# Altium integrated library TI_Logic_Little_Logic.IntLib: 1164 symbols (part 9 of 35)
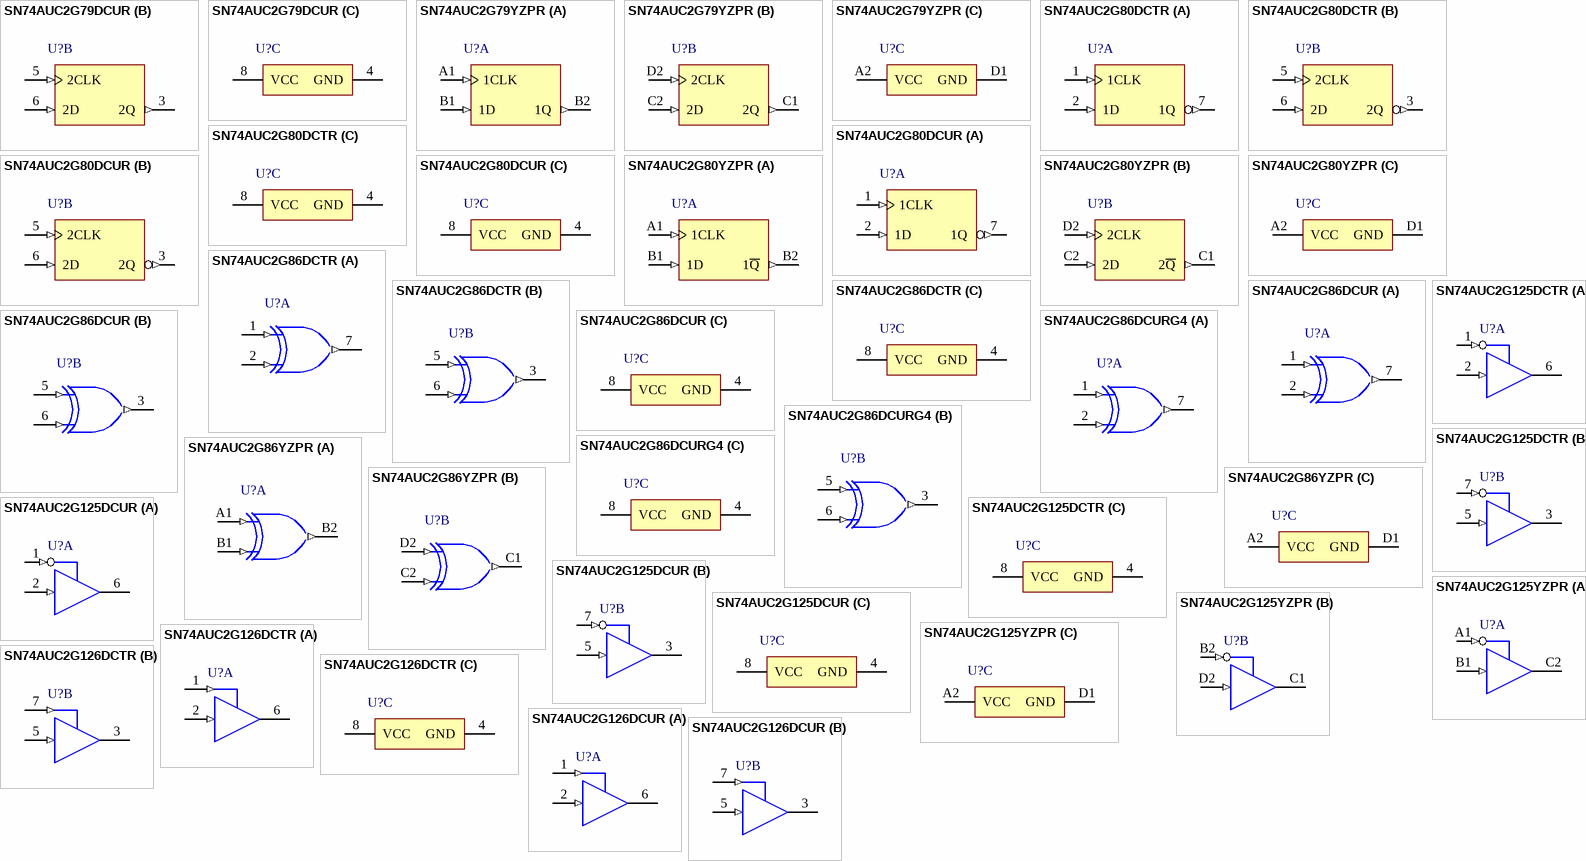
[diagram p68: symbols SN74AUC2G79DCUR to SN74AUC2G126DCUR]

## SN74AUC2G126DCTR
designator U?
Dual Bus Buffer Gate with 3-State Outputs, DCT0008A, LARGE T&R; Generic Part Number: SN74AUC2G126; Manufacturer: Texas Instruments; PartNumber: SN74AUC2G126DCTR; VCC(Min)(V): 0.8; VCC(Max)(V): 2.7; Output Type: CMOS; ICC @ Nom Voltage(Max)(mA): 0.01; Bits(#): 2; F @ Nom Voltage(Max)(Mhz): 250; Rating: Catalog; Technology Family: AUC; Voltage(Nom)(V): 0.8,1.2,1.5,1.8,2.5; Schmitt Trigger: No; Output Drive (IOL/IOH)(Max)(mA): 9/-9; tpd @ Nom Voltage(Max)(ns): 5.4,3.5,2.3,1.9,1.4; Logic: True; Sub-Family: Non-Inverting Buffer/Driver; 3-State Output: Yes; DatasheetVersion: SCES533C; PackageReference: DCT0008A; Supplier 1: Mouser; Supplier Part Number 1: 595-SN74AUC2G126DCTR; Supplier 2: Digi-Key; Supplier Part Number 2: 296-18885-2-ND; Supplier 3: Digi-Key; Supplier Part Number 3: 296-18885-1-ND; Supplier 4: Digi-Key; Supplier Part Number 4: 296-18885-6-ND; Input Type: CMOS; Operating Temperature Range(C): -40 to 85; ComponentLink1Description: Manufacturer URL; ComponentLink1URL: http://www.ti.com/; ComponentLink2Description: Datasheet; ComponentLink2URL: http://www.ti.com/lit/ds/symlink/sn74auc2g126.pdf
footprint DCT0008A_N (SOP, 8-Leads, Body 2.9x3.2mm, Pitch 0.65mm, IPC Medium Density)
footprint DCT0008A_M (SOP, 8-Leads, Body 2.9x3.2mm, Pitch 0.65mm, IPC Low Density)
footprint DCT0008A_L (SOP, 8-Leads, Body 2.9x3.2mm, Pitch 0.65mm, IPC High Density)
part A pins: 1 1OE (in), 2 1A (in), 6 1Y (hiz)
part B pins: 3 2Y (hiz), 5 2A (in), 7 2OE (in)
part C pins: 4 GND (power) "Ground Pin", 8 VCC (power) "Power Pin"

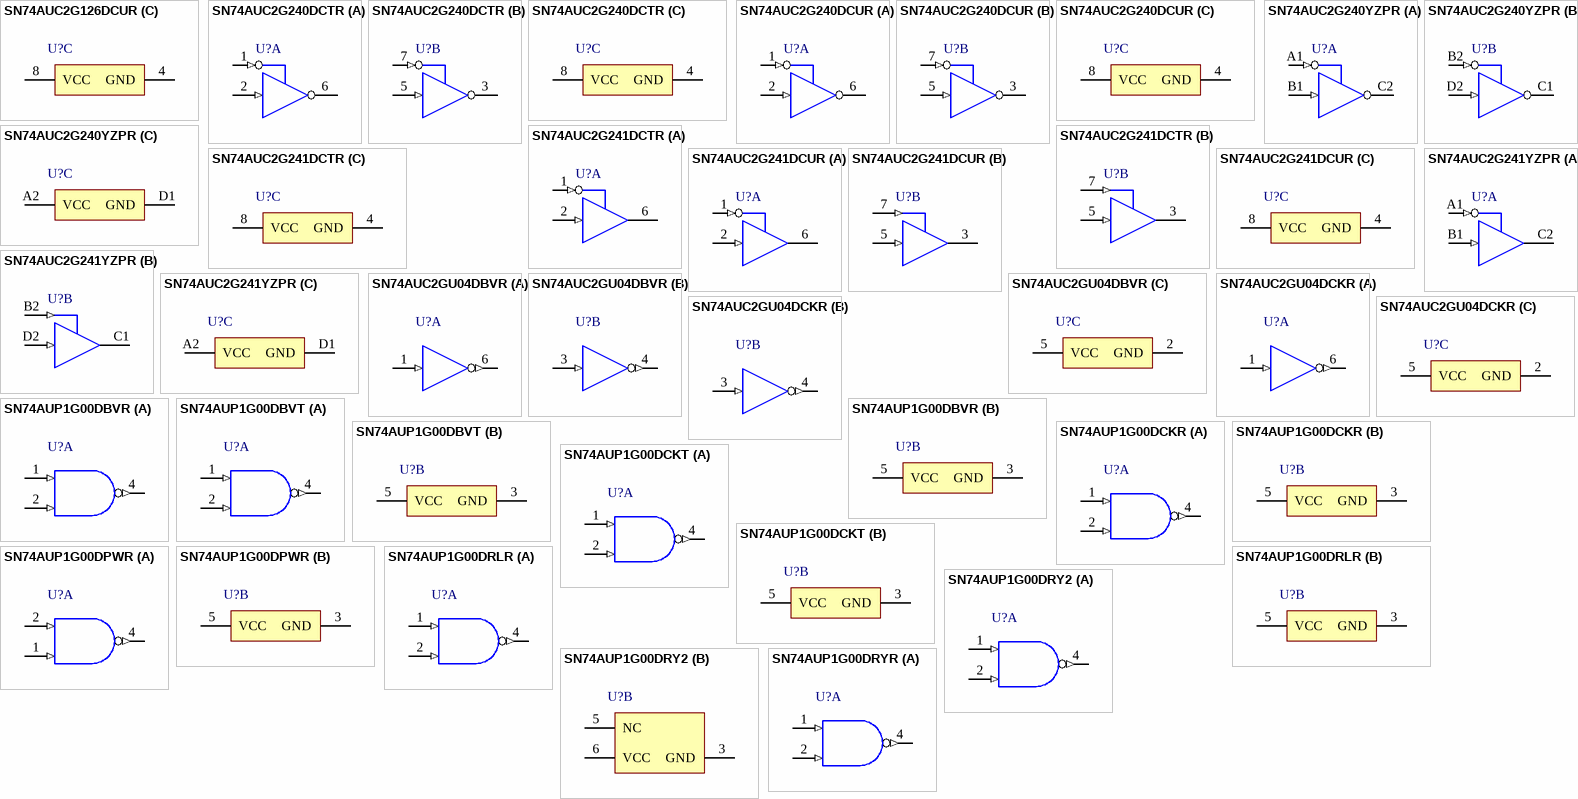
[diagram p14: symbols SN74AUC2G126DCUR to SN74AUP1G00DRYR]

## SN74AUC2G126DCUR
designator U?
Dual Bus Buffer Gate with 3-State Outputs, DCU0008A, LARGE T&R; Generic Part Number: SN74AUC2G126; Manufacturer: Texas Instruments; PartNumber: SN74AUC2G126DCUR; VCC(Min)(V): 0.8; VCC(Max)(V): 2.7; Output Type: CMOS; ICC @ Nom Voltage(Max)(mA): 0.01; Bits(#): 2; F @ Nom Voltage(Max)(Mhz): 250; Rating: Catalog; Technology Family: AUC; Voltage(Nom)(V): 0.8,1.2,1.5,1.8,2.5; Schmitt Trigger: No; Output Drive (IOL/IOH)(Max)(mA): 9/-9; tpd @ Nom Voltage(Max)(ns): 5.4,3.5,2.3,1.9,1.4; Logic: True; Sub-Family: Non-Inverting Buffer/Driver; 3-State Output: Yes; DatasheetVersion: SCES533C; PackageReference: DCU0008A; Supplier 1: Mouser; Supplier Part Number 1: 595-SN74AUC2G126DCUR; Supplier 2: Digi-Key; Supplier Part Number 2: 296-18970-2-ND; Supplier 3: Digi-Key; Supplier Part Number 3: 296-18970-1-ND; Supplier 4: Digi-Key; Supplier Part Number 4: 296-18970-6-ND; Input Type: CMOS; Operating Temperature Range(C): -40 to 85; ComponentLink1Description: Manufacturer URL; ComponentLink1URL: http://www.ti.com/; ComponentLink2Description: Datasheet; ComponentLink2URL: http://www.ti.com/lit/ds/symlink/sn74auc2g126.pdf
footprint DCU0008A_N (SOP, 8-Leads, Body 2.4x2.1mm, Pitch 0.5mm, IPC Medium Density)
footprint DCU0008A_M (SOP, 8-Leads, Body 2.4x2.1mm, Pitch 0.5mm, IPC Low Density)
footprint DCU0008A_L (SOP, 8-Leads, Body 2.4x2.1mm, Pitch 0.5mm, IPC High Density)
part A pins: 1 1OE (in), 2 1A (in), 6 1Y (hiz)
part B pins: 3 2Y (hiz), 5 2A (in), 7 2OE (in)
part C pins: 4 GND (power) "Ground Pin", 8 VCC (power) "Power Pin"

## SN74AUC2G240DCTR
designator U?
Dual Buffer/Driver with 3-State Outputs, DCT0008A, LARGE T&R; Generic Part Number: SN74AUC2G240; Manufacturer: Texas Instruments; PartNumber: SN74AUC2G240DCTR; VCC(Min)(V): 0.8; VCC(Max)(V): 2.7; Output Type: CMOS; ICC @ Nom Voltage(Max)(mA): 0.01; Bits(#): 2; F @ Nom Voltage(Max)(Mhz): 250; Rating: Catalog; Technology Family: AUC; Voltage(Nom)(V): 0.8,1.2,1.5,1.8,2.5; Schmitt Trigger: No; Output Drive (IOL/IOH)(Max)(mA): 9/-9; tpd @ Nom Voltage(Max)(ns): 4.5,3.3,2.2,1.8,1.3; Logic: Inverting; Sub-Family: Non-Inverting Buffer/Driver; 3-State Output: Yes; DatasheetVersion: SCES534C; PackageReference: DCT0008A; Supplier 1: Mouser; Supplier Part Number 1: 595-SN74AUC2G240DCTR; Supplier 2: Digi-Key; Supplier Part Number 2: 296-19038-2-ND; Supplier 3: Digi-Key; Supplier Part Number 3: 296-19038-1-ND; Supplier 4: Digi-Key; Supplier Part Number 4: 296-19038-6-ND; Input Type: CMOS; Operating Temperature Range(C): -40 to 85; ComponentLink1Description: Manufacturer URL; ComponentLink1URL: http://www.ti.com/; ComponentLink2Description: Datasheet; ComponentLink2URL: http://www.ti.com/lit/ds/symlink/sn74auc2g240.pdf
footprint DCT0008A_N (SOP, 8-Leads, Body 2.9x3.2mm, Pitch 0.65mm, IPC Medium Density)
footprint DCT0008A_M (SOP, 8-Leads, Body 2.9x3.2mm, Pitch 0.65mm, IPC Low Density)
footprint DCT0008A_L (SOP, 8-Leads, Body 2.9x3.2mm, Pitch 0.65mm, IPC High Density)
part A pins: 1 1~{OE} (in), 2 1A (in), 6 1Y (hiz)
part B pins: 3 2Y (hiz), 5 2A (in), 7 2~{OE} (in)
part C pins: 4 GND (power), 8 VCC (power)

## SN74AUC2G240DCUR
designator U?
Dual Buffer/Driver with 3-State Outputs, DCU0008A, LARGE T&R; Generic Part Number: SN74AUC2G240; Manufacturer: Texas Instruments; PartNumber: SN74AUC2G240DCUR; VCC(Min)(V): 0.8; VCC(Max)(V): 2.7; Output Type: CMOS; ICC @ Nom Voltage(Max)(mA): 0.01; Bits(#): 2; F @ Nom Voltage(Max)(Mhz): 250; Rating: Catalog; Technology Family: AUC; Voltage(Nom)(V): 0.8,1.2,1.5,1.8,2.5; Schmitt Trigger: No; Output Drive (IOL/IOH)(Max)(mA): 9/-9; tpd @ Nom Voltage(Max)(ns): 4.5,3.3,2.2,1.8,1.3; Logic: Inverting; Sub-Family: Non-Inverting Buffer/Driver; 3-State Output: Yes; DatasheetVersion: SCES534C; PackageReference: DCU0008A; Supplier 1: Mouser; Supplier Part Number 1: 595-SN74AUC2G240DCUR; Supplier 2: Digi-Key; Supplier Part Number 2: 296-18882-2-ND; Supplier 3: Digi-Key; Supplier Part Number 3: 296-18882-1-ND; Supplier 4: Digi-Key; Supplier Part Number 4: 296-18882-6-ND; Input Type: CMOS; Operating Temperature Range(C): -40 to 85; ComponentLink1Description: Manufacturer URL; ComponentLink1URL: http://www.ti.com/; ComponentLink2Description: Datasheet; ComponentLink2URL: http://www.ti.com/lit/ds/symlink/sn74auc2g240.pdf
footprint DCU0008A_N (SOP, 8-Leads, Body 2.4x2.1mm, Pitch 0.5mm, IPC Medium Density)
footprint DCU0008A_M (SOP, 8-Leads, Body 2.4x2.1mm, Pitch 0.5mm, IPC Low Density)
footprint DCU0008A_L (SOP, 8-Leads, Body 2.4x2.1mm, Pitch 0.5mm, IPC High Density)
part A pins: 1 1~{OE} (in), 2 1A (in), 6 1Y (hiz)
part B pins: 3 2Y (hiz), 5 2A (in), 7 2~{OE} (in)
part C pins: 4 GND (power), 8 VCC (power)

## SN74AUC2G240YZPR
designator U?
Dual Buffer/Driver with 3-State Outputs, YZP0008ADAD, LARGE T&R; Generic Part Number: SN74AUC2G240; Manufacturer: Texas Instruments; PartNumber: SN74AUC2G240YZPR; VCC(Min)(V): 0.8; VCC(Max)(V): 2.7; Output Type: CMOS; ICC @ Nom Voltage(Max)(mA): 0.01; Bits(#): 2; F @ Nom Voltage(Max)(Mhz): 250; Rating: Catalog; Technology Family: AUC; Voltage(Nom)(V): 0.8,1.2,1.5,1.8,2.5; Schmitt Trigger: No; Output Drive (IOL/IOH)(Max)(mA): 9/-9; tpd @ Nom Voltage(Max)(ns): 4.5,3.3,2.2,1.8,1.3; Logic: Inverting; Sub-Family: Non-Inverting Buffer/Driver; 3-State Output: Yes; DatasheetVersion: SCES534C; PackageReference: YZP0008ADAD; Supplier 1: Mouser; Supplier Part Number 1: 595-SN74AUC2G240YZPR; Supplier 2: Digi-Key; Supplier Part Number 2: 296-16802-2-ND; Supplier 3: Digi-Key; Supplier Part Number 3: 296-16802-1-ND; Supplier 4: Digi-Key; Supplier Part Number 4: 296-16802-6-ND; Input Type: CMOS; Operating Temperature Range(C): -40 to 85; ComponentLink1Description: Manufacturer URL; ComponentLink1URL: http://www.ti.com/; ComponentLink2Description: Datasheet; ComponentLink2URL: http://www.ti.com/lit/ds/symlink/sn74auc2g240.pdf
footprint YZP0008ADAD (BGA, 8-Balls, Body 1.89x0.89mm, Pitch 0.5mm)
part A pins: A1 1~{OE} (in), B1 1A (in), C2 1Y (hiz)
part B pins: B2 2~{OE} (in), C1 2Y (hiz), D2 2A (in)
part C pins: A2 VCC (power), D1 GND (power)

## SN74AUC2G241DCTR
designator U?
Dual Buffer/Driver with 3-State Outputs, DCT0008A, LARGE T&R; Generic Part Number: SN74AUC2G241; Manufacturer: Texas Instruments; PartNumber: SN74AUC2G241DCTR; VCC(Min)(V): 0.8; VCC(Max)(V): 2.7; Output Type: CMOS; ICC @ Nom Voltage(Max)(mA): 0.01; Bits(#): 2; F @ Nom Voltage(Max)(Mhz): 250; Rating: Catalog; Technology Family: AUC; Voltage(Nom)(V): 0.8,1.2,1.5,1.8,2.5; Schmitt Trigger: No; Output Drive (IOL/IOH)(Max)(mA): 9/-9; tpd @ Nom Voltage(Max)(ns): 5.1,3.5,2.3,1.9,1.4; Logic: True; Sub-Family: Non-Inverting Buffer/Driver; 3-State Output: Yes; DatasheetVersion: SCES535C; PackageReference: DCT0008A; Supplier 1: Mouser; Supplier Part Number 1: 595-SN74AUC2G241DCTR; Supplier 2: Digi-Key; Supplier Part Number 2: 296-18883-2-ND; Supplier 3: Digi-Key; Supplier Part Number 3: 296-18883-1-ND; Supplier 4: Digi-Key; Supplier Part Number 4: 296-18883-6-ND; Input Type: CMOS; Operating Temperature Range(C): -40 to 85; ComponentLink1Description: Manufacturer URL; ComponentLink1URL: http://www.ti.com/; ComponentLink2Description: Datasheet; ComponentLink2URL: http://www.ti.com/lit/ds/symlink/sn74auc2g241.pdf
footprint DCT0008A_N (SOP, 8-Leads, Body 2.9x3.2mm, Pitch 0.65mm, IPC Medium Density)
footprint DCT0008A_M (SOP, 8-Leads, Body 2.9x3.2mm, Pitch 0.65mm, IPC Low Density)
footprint DCT0008A_L (SOP, 8-Leads, Body 2.9x3.2mm, Pitch 0.65mm, IPC High Density)
part A pins: 1 1~{OE} (in), 2 1A (in), 6 1Y (hiz)
part B pins: 3 2Y (hiz), 5 2A (in), 7 2OE (in)
part C pins: 4 GND (power), 8 VCC (power)

## SN74AUC2G241DCUR
designator U?
Dual Buffer/Driver with 3-State Outputs, DCU0008A, LARGE T&R; Generic Part Number: SN74AUC2G241; Manufacturer: Texas Instruments; PartNumber: SN74AUC2G241DCUR; VCC(Min)(V): 0.8; VCC(Max)(V): 2.7; Output Type: CMOS; ICC @ Nom Voltage(Max)(mA): 0.01; Bits(#): 2; F @ Nom Voltage(Max)(Mhz): 250; Rating: Catalog; Technology Family: AUC; Voltage(Nom)(V): 0.8,1.2,1.5,1.8,2.5; Schmitt Trigger: No; Output Drive (IOL/IOH)(Max)(mA): 9/-9; tpd @ Nom Voltage(Max)(ns): 5.1,3.5,2.3,1.9,1.4; Logic: True; Sub-Family: Non-Inverting Buffer/Driver; 3-State Output: Yes; DatasheetVersion: SCES535C; PackageReference: DCU0008A; Supplier 1: Mouser; Supplier Part Number 1: 595-SN74AUC2G241DCUR; Supplier 2: Digi-Key; Supplier Part Number 2: 296-18884-2-ND; Supplier 3: Digi-Key; Supplier Part Number 3: 296-18884-1-ND; Supplier 4: Digi-Key; Supplier Part Number 4: 296-18884-6-ND; Input Type: CMOS; Operating Temperature Range(C): -40 to 85; ComponentLink1Description: Manufacturer URL; ComponentLink1URL: http://www.ti.com/; ComponentLink2Description: Datasheet; ComponentLink2URL: http://www.ti.com/lit/ds/symlink/sn74auc2g241.pdf
footprint DCU0008A_N (SOP, 8-Leads, Body 2.4x2.1mm, Pitch 0.5mm, IPC Medium Density)
footprint DCU0008A_M (SOP, 8-Leads, Body 2.4x2.1mm, Pitch 0.5mm, IPC Low Density)
footprint DCU0008A_L (SOP, 8-Leads, Body 2.4x2.1mm, Pitch 0.5mm, IPC High Density)
part A pins: 1 1~{OE} (in), 2 1A (in), 6 1Y (hiz)
part B pins: 3 2Y (hiz), 5 2A (in), 7 2OE (in)
part C pins: 4 GND (power), 8 VCC (power)

## SN74AUC2G241YZPR
designator U?
Dual Buffer/Driver with 3-State Outputs, YZP0008ADAD, LARGE T&R; Generic Part Number: SN74AUC2G241; Manufacturer: Texas Instruments; PartNumber: SN74AUC2G241YZPR; VCC(Min)(V): 0.8; VCC(Max)(V): 2.7; Output Type: CMOS; ICC @ Nom Voltage(Max)(mA): 0.01; Bits(#): 2; F @ Nom Voltage(Max)(Mhz): 250; Rating: Catalog; Technology Family: AUC; Voltage(Nom)(V): 0.8,1.2,1.5,1.8,2.5; Schmitt Trigger: No; Output Drive (IOL/IOH)(Max)(mA): 9/-9; tpd @ Nom Voltage(Max)(ns): 5.1,3.5,2.3,1.9,1.4; Logic: True; Sub-Family: Non-Inverting Buffer/Driver; 3-State Output: Yes; DatasheetVersion: SCES535C; PackageReference: YZP0008ADAD; Supplier 1: Mouser; Supplier Part Number 1: 595-SN74AUC2G241YZPR; Supplier 2: Digi-Key; Supplier Part Number 2: SN74AUC2G241YZPR-ND; Input Type: CMOS; Operating Temperature Range(C): -40 to 85; ComponentLink1Description: Manufacturer URL; ComponentLink1URL: http://www.ti.com/; ComponentLink2Description: Datasheet; ComponentLink2URL: http://www.ti.com/lit/ds/symlink/sn74auc2g241.pdf
footprint YZP0008ADAD (BGA, 8-Balls, Body 1.89x0.89mm, Pitch 0.5mm)
part A pins: A1 1~{OE} (in), B1 1A (in), C2 1Y (hiz)
part B pins: B2 2OE (in), C1 2Y (hiz), D2 2A (in)
part C pins: A2 VCC (power), D1 GND (power)

## SN74AUC2GU04DBVR
designator U?
Dual Inverter Gate, DBV0006A, LARGE T&R; Generic Part Number: SN74AUC2GU04; Manufacturer: Texas Instruments; PartNumber: SN74AUC2GU04DBVR; VCC(Min)(V): 0.8; VCC(Max)(V): 2.7; Output Type: CMOS; ICC @ Nom Voltage(Max)(mA): 0.01; Bits(#): 2; F @ Nom Voltage(Max)(Mhz): 250; Rating: Catalog; Technology Family: AUC; Voltage(Nom)(V): 0.8,1.2,1.5,1.8,2.5; Schmitt Trigger: No; Output Drive (IOL/IOH)(Max)(mA): 9/-9; tpd @ Nom Voltage(Max)(ns): 6.2,3.1,2.2,1.9,1.4; Logic: Inverting; Sub-Family: Inverting Buffer/Driver; DatasheetVersion: SCES438C; PackageReference: DBV0006A; Supplier 1: Mouser; Supplier Part Number 1: 595-SN74AUC2GU04DBVR; Supplier 2: Digi-Key; Supplier Part Number 2: 296-19063-2-ND; Supplier 3: Digi-Key; Supplier Part Number 3: 296-19063-1-ND; Supplier 4: Digi-Key; Supplier Part Number 4: 296-19063-6-ND; Input Type: CMOS; Operating Temperature Range(C): -40 to 85; 3-State Output: No; ComponentLink1Description: Manufacturer URL; ComponentLink1URL: http://www.ti.com/; ComponentLink2Description: Datasheet; ComponentLink2URL: http://www.ti.com/lit/ds/symlink/sn74auc2gu04.pdf
footprint DBV0006A_N (SOT23, 6-Leads, Body 3.05x1.75mm, Pitch 0.95mm, IPC Medium Density)
footprint DBV0006A_M (SOT23, 6-Leads, Body 3.05x1.75mm, Pitch 0.95mm, IPC Low Density)
footprint DBV0006A_L (SOT23, 6-Leads, Body 3.05x1.75mm, Pitch 0.95mm, IPC High Density)
part A pins: 1 1A (in), 6 1Y (out)
part B pins: 3 2A (in), 4 2Y (out)
part C pins: 2 GND (power), 5 VCC (power)

## SN74AUC2GU04DCKR
designator U?
Dual Inverter Gate, DCK0006A, LARGE T&R; Generic Part Number: SN74AUC2GU04; Manufacturer: Texas Instruments; PartNumber: SN74AUC2GU04DCKR; VCC(Min)(V): 0.8; VCC(Max)(V): 2.7; Output Type: CMOS; ICC @ Nom Voltage(Max)(mA): 0.01; Bits(#): 2; F @ Nom Voltage(Max)(Mhz): 250; Rating: Catalog; Technology Family: AUC; Voltage(Nom)(V): 0.8,1.2,1.5,1.8,2.5; Schmitt Trigger: No; Output Drive (IOL/IOH)(Max)(mA): 9/-9; tpd @ Nom Voltage(Max)(ns): 6.2,3.1,2.2,1.9,1.4; Logic: Inverting; Sub-Family: Inverting Buffer/Driver; DatasheetVersion: SCES438C; PackageReference: DCK0006A; Supplier 1: Mouser; Supplier Part Number 1: 595-SN74AUC2GU04DCKR; Supplier 2: Digi-Key; Supplier Part Number 2: SN74AUC2GU04DCKR-ND; Input Type: CMOS; Operating Temperature Range(C): -40 to 85; 3-State Output: No; ComponentLink1Description: Manufacturer URL; ComponentLink1URL: http://www.ti.com/; ComponentLink2Description: Datasheet; ComponentLink2URL: http://www.ti.com/lit/ds/symlink/sn74auc2gu04.pdf
footprint DCK0006A_N (SOT23, 6-Leads, Body 2.15x1.4mm, Pitch 0.65mm, IPC Medium Density)
footprint DCK0006A_M (SOT23, 6-Leads, Body 2.15x1.4mm, Pitch 0.65mm, IPC Low Density)
footprint DCK0006A_L (SOT23, 6-Leads, Body 2.15x1.4mm, Pitch 0.65mm, IPC High Density)
part A pins: 1 1A (in), 6 1Y (out)
part B pins: 3 2A (in), 4 2Y (out)
part C pins: 2 GND (power), 5 VCC (power)

## SN74AUP1G00DBVR
designator U?
Low-Power Single Two-Input Positive-NAND Gate, DBV0005A, LARGE T&R; Generic Part Number: SN74AUP1G00; Manufacturer: Texas Instruments; PartNumber: SN74AUP1G00DBVR; VCC(Min)(V): 0.8; VCC(Max)(V): 3.6; Output Type: CMOS; ICC @ Nom Voltage(Max)(mA): 0.0009; Bits(#): 1; F @ Nom Voltage(Max)(Mhz): 100; Rating: Catalog; Technology Family: AUP; Voltage(Nom)(V): 0.8,1.2,1.5,1.8,2.5,3.3; Schmitt Trigger: No; Output Drive (IOL/IOH)(Max)(mA): 20/-20; tpd @ Nom Voltage(Max)(ns): 28.4,21.9,14.7,11.5,8.1,6.5; Logic: True; Gate Type: NAND; DatasheetVersion: SCES604I; PackageReference: DBV0005A; Supplier 1: Mouser; Supplier Part Number 1: 595-SN74AUP1G00DBVR; Supplier 2: Digi-Key; Supplier Part Number 2: 296-18581-2-ND; Supplier 3: Digi-Key; Supplier Part Number 3: 296-18581-1-ND; Supplier 4: Digi-Key; Supplier Part Number 4: 296-18581-6-ND; Input Type: CMOS; Operating Temperature Range(C): -40 to 85; Sub-Family: NAND Gate; 3-State Output: No; ComponentLink1Description: Manufacturer URL; ComponentLink1URL: http://www.ti.com/; ComponentLink2Description: Datasheet; ComponentLink2URL: http://www.ti.com/lit/ds/symlink/sn74aup1g00.pdf
footprint DBV0005A_N (SOT23, 5-Leads, Body 3.05x1.75mm, Pitch 0.95mm, IPC Medium Density)
footprint DBV0005A_M (SOT23, 5-Leads, Body 3.05x1.75mm, Pitch 0.95mm, IPC Low Density)
footprint DBV0005A_L (SOT23, 5-Leads, Body 3.05x1.75mm, Pitch 0.95mm, IPC High Density)
part A pins: 1 A (in) "Input A", 2 B (in) "Input B", 4 Y (out) "Output Y"
part B pins: 3 GND (power) "Ground Pin", 5 VCC (power) "Power Pin"

## SN74AUP1G00DBVT
designator U?
Low-Power Single Two-Input Positive-NAND Gate, DBV0005A, SMALL T&R; Generic Part Number: SN74AUP1G00; Manufacturer: Texas Instruments; PartNumber: SN74AUP1G00DBVT; VCC(Min)(V): 0.8; VCC(Max)(V): 3.6; Output Type: CMOS; ICC @ Nom Voltage(Max)(mA): 0.0009; Bits(#): 1; F @ Nom Voltage(Max)(Mhz): 100; Rating: Catalog; Technology Family: AUP; Voltage(Nom)(V): 0.8,1.2,1.5,1.8,2.5,3.3; Schmitt Trigger: No; Output Drive (IOL/IOH)(Max)(mA): 20/-20; tpd @ Nom Voltage(Max)(ns): 28.4,21.9,14.7,11.5,8.1,6.5; Logic: True; Gate Type: NAND; DatasheetVersion: SCES604I; PackageReference: DBV0005A; Supplier 1: Mouser; Supplier Part Number 1: 595-SN74AUP1G00DBVT; Supplier 2: Digi-Key; Supplier Part Number 2: 296-41489-2-ND; Supplier 3: Digi-Key; Supplier Part Number 3: 296-41489-1-ND; Supplier 4: Digi-Key; Supplier Part Number 4: 296-41489-6-ND; Input Type: CMOS; Operating Temperature Range(C): -40 to 85; Sub-Family: NAND Gate; 3-State Output: No; ComponentLink1Description: Manufacturer URL; ComponentLink1URL: http://www.ti.com/; ComponentLink2Description: Datasheet; ComponentLink2URL: http://www.ti.com/lit/ds/symlink/sn74aup1g00.pdf
footprint DBV0005A_N (SOT23, 5-Leads, Body 3.05x1.75mm, Pitch 0.95mm, IPC Medium Density)
footprint DBV0005A_M (SOT23, 5-Leads, Body 3.05x1.75mm, Pitch 0.95mm, IPC Low Density)
footprint DBV0005A_L (SOT23, 5-Leads, Body 3.05x1.75mm, Pitch 0.95mm, IPC High Density)
part A pins: 1 A (in) "Input A", 2 B (in) "Input B", 4 Y (out) "Output Y"
part B pins: 3 GND (power) "Ground Pin", 5 VCC (power) "Power Pin"

## SN74AUP1G00DCKR
designator U?
Low-Power Single Two-Input Positive-NAND Gate, DCK0005A, LARGE T&R; Generic Part Number: SN74AUP1G00; Manufacturer: Texas Instruments; PartNumber: SN74AUP1G00DCKR; VCC(Min)(V): 0.8; VCC(Max)(V): 3.6; Output Type: CMOS; ICC @ Nom Voltage(Max)(mA): 0.0009; Bits(#): 1; F @ Nom Voltage(Max)(Mhz): 100; Rating: Catalog; Technology Family: AUP; Voltage(Nom)(V): 0.8,1.2,1.5,1.8,2.5,3.3; Schmitt Trigger: No; Output Drive (IOL/IOH)(Max)(mA): 20/-20; tpd @ Nom Voltage(Max)(ns): 28.4,21.9,14.7,11.5,8.1,6.5; Logic: True; Gate Type: NAND; DatasheetVersion: SCES604I; PackageReference: DCK0005A; Supplier 1: Mouser; Supplier Part Number 1: 595-SN74AUP1G00DCKR; Supplier 2: Digi-Key; Supplier Part Number 2: 296-18200-2-ND; Supplier 3: Digi-Key; Supplier Part Number 3: 296-18200-1-ND; Supplier 4: Digi-Key; Supplier Part Number 4: 296-18200-6-ND; Input Type: CMOS; Operating Temperature Range(C): -40 to 85; Sub-Family: NAND Gate; 3-State Output: No; ComponentLink1Description: Manufacturer URL; ComponentLink1URL: http://www.ti.com/; ComponentLink2Description: Datasheet; ComponentLink2URL: http://www.ti.com/lit/ds/symlink/sn74aup1g00.pdf
footprint DCK0005A_N (SOT23, 5-Leads, Body 2.15x1.4mm, Pitch 0.65mm, IPC Medium Density)
footprint DCK0005A_M (SOT23, 5-Leads, Body 2.15x1.4mm, Pitch 0.65mm, IPC Low Density)
footprint DCK0005A_L (SOT23, 5-Leads, Body 2.15x1.4mm, Pitch 0.65mm, IPC High Density)
part A pins: 1 A (in) "Input A", 2 B (in) "Input B", 4 Y (out) "Output Y"
part B pins: 3 GND (power) "Ground Pin", 5 VCC (power) "Power Pin"

## SN74AUP1G00DCKT
designator U?
Low-Power Single Two-Input Positive-NAND Gate, DCK0005A, SMALL T&R; Generic Part Number: SN74AUP1G00; Manufacturer: Texas Instruments; PartNumber: SN74AUP1G00DCKT; VCC(Min)(V): 0.8; VCC(Max)(V): 3.6; Output Type: CMOS; ICC @ Nom Voltage(Max)(mA): 0.0009; Bits(#): 1; F @ Nom Voltage(Max)(Mhz): 100; Rating: Catalog; Technology Family: AUP; Voltage(Nom)(V): 0.8,1.2,1.5,1.8,2.5,3.3; Schmitt Trigger: No; Output Drive (IOL/IOH)(Max)(mA): 20/-20; tpd @ Nom Voltage(Max)(ns): 28.4,21.9,14.7,11.5,8.1,6.5; Logic: True; Gate Type: NAND; DatasheetVersion: SCES604I; PackageReference: DCK0005A; Supplier 1: Mouser; Supplier Part Number 1: 595-SN74AUP1G00DCKT; Supplier 2: Digi-Key; Supplier Part Number 2: SN74AUP1G00DCKT-ND; Input Type: CMOS; Operating Temperature Range(C): -40 to 85; Sub-Family: NAND Gate; 3-State Output: No; ComponentLink1Description: Manufacturer URL; ComponentLink1URL: http://www.ti.com/; ComponentLink2Description: Datasheet; ComponentLink2URL: http://www.ti.com/lit/ds/symlink/sn74aup1g00.pdf
footprint DCK0005A_N (SOT23, 5-Leads, Body 2.15x1.4mm, Pitch 0.65mm, IPC Medium Density)
footprint DCK0005A_M (SOT23, 5-Leads, Body 2.15x1.4mm, Pitch 0.65mm, IPC Low Density)
footprint DCK0005A_L (SOT23, 5-Leads, Body 2.15x1.4mm, Pitch 0.65mm, IPC High Density)
part A pins: 1 A (in) "Input A", 2 B (in) "Input B", 4 Y (out) "Output Y"
part B pins: 3 GND (power) "Ground Pin", 5 VCC (power) "Power Pin"

## SN74AUP1G00DPWR
designator U?
Low-Power Single Two-Input Positive-NAND Gate, DPW0004A, LARGE T&R; Generic Part Number: SN74AUP1G00; Manufacturer: Texas Instruments; PartNumber: SN74AUP1G00DPWR; VCC(Min)(V): 0.8; VCC(Max)(V): 3.6; Output Type: CMOS; ICC @ Nom Voltage(Max)(mA): 0.0009; Bits(#): 1; F @ Nom Voltage(Max)(Mhz): 100; Rating: Catalog; Technology Family: AUP; Voltage(Nom)(V): 0.8,1.2,1.5,1.8,2.5,3.3; Schmitt Trigger: No; Output Drive (IOL/IOH)(Max)(mA): 20/-20; tpd @ Nom Voltage(Max)(ns): 28.4,21.9,14.7,11.5,8.1,6.5; Logic: True; Gate Type: NAND; DatasheetVersion: SCES604I; PackageReference: DPW0004A; Supplier 1: Mouser; Supplier Part Number 1: 595-SN74AUP1G00DPWR; Supplier 2: Digi-Key; Supplier Part Number 2: 296-38017-2-ND; Supplier 3: Digi-Key; Supplier Part Number 3: 296-38017-1-ND; Supplier 4: Digi-Key; Supplier Part Number 4: 296-38017-6-ND; Input Type: CMOS; Operating Temperature Range(C): -40 to 85; Sub-Family: NAND Gate; 3-State Output: No; ComponentLink1Description: Manufacturer URL; ComponentLink1URL: http://www.ti.com/; ComponentLink2Description: Datasheet; ComponentLink2URL: http://www.ti.com/lit/ds/symlink/sn74aup1g00.pdf
footprint DPW0004A_V (SON, 5-Leads, Body 0.8x0.8mm, TI Recommend)
part A pins: 1 B (in) "Input B", 2 A (in) "Input A", 4 Y (out) "Output Y"
part B pins: 3 GND (power) "Ground", 5 VCC (power) "Power Pin"

## SN74AUP1G00DRLR
designator U?
Low-Power Single Two-Input Positive-NAND Gate, DRL0005A, LARGE T&R; Generic Part Number: SN74AUP1G00; Manufacturer: Texas Instruments; PartNumber: SN74AUP1G00DRLR; VCC(Min)(V): 0.8; VCC(Max)(V): 3.6; Output Type: CMOS; ICC @ Nom Voltage(Max)(mA): 0.0009; Bits(#): 1; F @ Nom Voltage(Max)(Mhz): 100; Rating: Catalog; Technology Family: AUP; Voltage(Nom)(V): 0.8,1.2,1.5,1.8,2.5,3.3; Schmitt Trigger: No; Output Drive (IOL/IOH)(Max)(mA): 20/-20; tpd @ Nom Voltage(Max)(ns): 28.4,21.9,14.7,11.5,8.1,6.5; Logic: True; Gate Type: NAND; DatasheetVersion: SCES604I; PackageReference: DRL0005A; Supplier 1: Mouser; Supplier Part Number 1: 595-SN74AUP1G00DRLR; Supplier 2: Digi-Key; Supplier Part Number 2: 296-18712-2-ND; Supplier 3: Digi-Key; Supplier Part Number 3: 296-18712-1-ND; Supplier 4: Digi-Key; Supplier Part Number 4: 296-18712-6-ND; Input Type: CMOS; Operating Temperature Range(C): -40 to 85; Sub-Family: NAND Gate; 3-State Output: No; ComponentLink1Description: Manufacturer URL; ComponentLink1URL: http://www.ti.com/; ComponentLink2Description: Datasheet; ComponentLink2URL: http://www.ti.com/lit/ds/symlink/sn74aup1g00.pdf
footprint DRL0005A_N (SOT23, 5-Leads, Body 1.7x1.3mm, Pitch 0.5mm, IPC Medium Density)
footprint DRL0005A_M (SOT23, 5-Leads, Body 1.7x1.3mm, Pitch 0.5mm, IPC Low Density)
footprint DRL0005A_L (SOT23, 5-Leads, Body 1.7x1.3mm, Pitch 0.5mm, IPC High Density)
part A pins: 1 A (in) "Input A", 2 B (in) "Input B", 4 Y (out) "Output Y"
part B pins: 3 GND (power) "Ground Pin", 5 VCC (power) "Power Pin"

## SN74AUP1G00DRY2
designator U?
Low-Power Single Two-Input Positive-NAND Gate, DRY0006A, LARGE T&R; Generic Part Number: SN74AUP1G00; Manufacturer: Texas Instruments; PartNumber: SN74AUP1G00DRY2; VCC(Min)(V): 0.8; VCC(Max)(V): 3.6; Output Type: CMOS; ICC @ Nom Voltage(Max)(mA): 0.0009; Bits(#): 1; F @ Nom Voltage(Max)(Mhz): 100; Rating: Catalog; Technology Family: AUP; Voltage(Nom)(V): 0.8,1.2,1.5,1.8,2.5,3.3; Schmitt Trigger: No; Output Drive (IOL/IOH)(Max)(mA): 20/-20; tpd @ Nom Voltage(Max)(ns): 28.4,21.9,14.7,11.5,8.1,6.5; Logic: True; Gate Type: NAND; DatasheetVersion: SCES604I; PackageReference: DRY0006A; Supplier 1: Mouser; Supplier Part Number 1: 595-SN74AUP1G00DRY2; Supplier 2: Digi-Key; Supplier Part Number 2: SN74AUP1G00DRY2-ND; Input Type: CMOS; Operating Temperature Range(C): -40 to 85; Sub-Family: NAND Gate; 3-State Output: No; ComponentLink1Description: Manufacturer URL; ComponentLink1URL: http://www.ti.com/; ComponentLink2Description: Datasheet; ComponentLink2URL: http://www.ti.com/lit/ds/symlink/sn74aup1g00.pdf
footprint DRY0006A_V (SON, 6-Leads, Body 1.45x1mm, Pitch 0.5mm)
part A pins: 1 A (in) "Input", 2 B (in) "Input", 4 Y (out) "Output"
part B pins: 3 GND (power) "Ground", 5 NC "No internal connection", 6 VCC (power) "Power Pin"

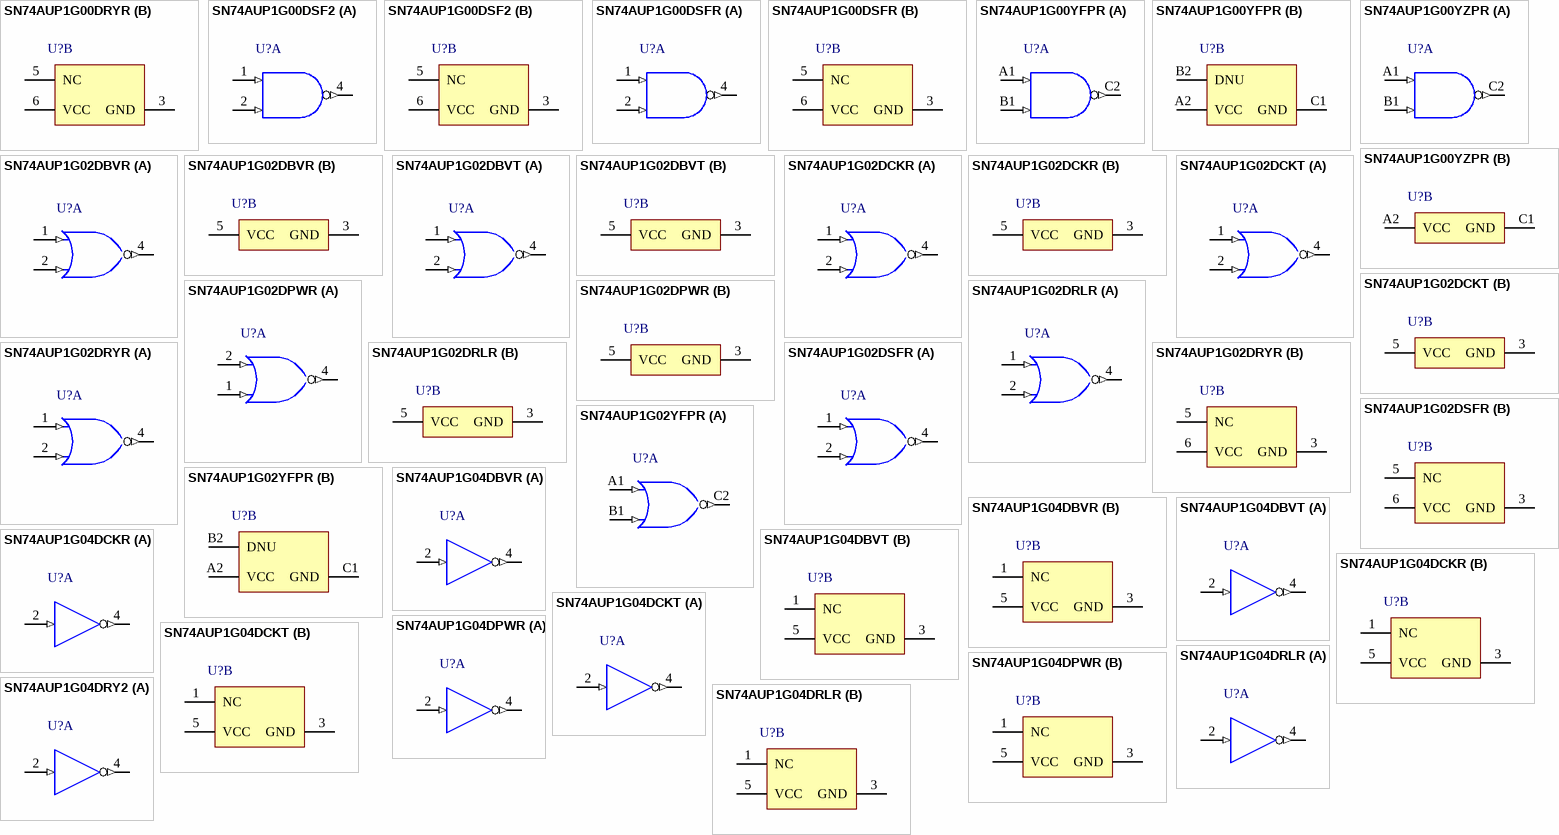
[diagram p15: symbols SN74AUP1G00DRYR to SN74AUP1G04DRY2]

## SN74AUP1G00DRYR
designator U?
Low-Power Single Two-Input Positive-NAND Gate, DRY0006A, LARGE T&R; Generic Part Number: SN74AUP1G00; Manufacturer: Texas Instruments; PartNumber: SN74AUP1G00DRYR; VCC(Min)(V): 0.8; VCC(Max)(V): 3.6; Output Type: CMOS; ICC @ Nom Voltage(Max)(mA): 0.0009; Bits(#): 1; F @ Nom Voltage(Max)(Mhz): 100; Rating: Catalog; Technology Family: AUP; Voltage(Nom)(V): 0.8,1.2,1.5,1.8,2.5,3.3; Schmitt Trigger: No; Output Drive (IOL/IOH)(Max)(mA): 20/-20; tpd @ Nom Voltage(Max)(ns): 28.4,21.9,14.7,11.5,8.1,6.5; Logic: True; Gate Type: NAND; DatasheetVersion: SCES604I; PackageReference: DRY0006A; Supplier 1: Mouser; Supplier Part Number 1: 595-SN74AUP1G00DRYR; Supplier 2: Digi-Key; Supplier Part Number 2: 296-27337-2-ND; Supplier 3: Digi-Key; Supplier Part Number 3: 296-27337-1-ND; Supplier 4: Digi-Key; Supplier Part Number 4: 296-27337-6-ND; Input Type: CMOS; Operating Temperature Range(C): -40 to 85; Sub-Family: NAND Gate; 3-State Output: No; ComponentLink1Description: Manufacturer URL; ComponentLink1URL: http://www.ti.com/; ComponentLink2Description: Datasheet; ComponentLink2URL: http://www.ti.com/lit/ds/symlink/sn74aup1g00.pdf
footprint DRY0006A_V (SON, 6-Leads, Body 1.45x1mm, Pitch 0.5mm)
part A pins: 1 A (in) "Input", 2 B (in) "Input", 4 Y (out) "Output"
part B pins: 3 GND (power) "Ground", 5 NC "No internal connection", 6 VCC (power) "Power Pin"

## SN74AUP1G00DSF2
designator U?
Low-Power Single Two-Input Positive-NAND Gate, DSF0006A, LARGE T&R; Generic Part Number: SN74AUP1G00; Manufacturer: Texas Instruments; PartNumber: SN74AUP1G00DSF2; VCC(Min)(V): 0.8; VCC(Max)(V): 3.6; Output Type: CMOS; ICC @ Nom Voltage(Max)(mA): 0.0009; Bits(#): 1; F @ Nom Voltage(Max)(Mhz): 100; Rating: Catalog; Technology Family: AUP; Voltage(Nom)(V): 0.8,1.2,1.5,1.8,2.5,3.3; Schmitt Trigger: No; Output Drive (IOL/IOH)(Max)(mA): 20/-20; tpd @ Nom Voltage(Max)(ns): 28.4,21.9,14.7,11.5,8.1,6.5; Logic: True; Gate Type: NAND; DatasheetVersion: SCES604I; PackageReference: DSF0006A; Supplier 1: Mouser; Supplier Part Number 1: 595-SN74AUP1G00DSF2; Supplier 2: Digi-Key; Supplier Part Number 2: SN74AUP1G00DSF2-ND; Input Type: CMOS; Operating Temperature Range(C): -40 to 85; Sub-Family: NAND Gate; 3-State Output: No; ComponentLink1Description: Manufacturer URL; ComponentLink1URL: http://www.ti.com/; ComponentLink2Description: Datasheet; ComponentLink2URL: http://www.ti.com/lit/ds/symlink/sn74aup1g00.pdf
footprint DSF0006A_V (SON, 6-Leads, Body 1x1mm, Pitch 0.35mm, TI Recommend)
part A pins: 1 A (in) "Input", 2 B (in) "Input", 4 Y (out) "Output"
part B pins: 3 GND (power) "Ground", 5 NC "No internal connection", 6 VCC (power) "Power Pin"

## SN74AUP1G00DSFR
designator U?
Low-Power Single Two-Input Positive-NAND Gate, DSF0006A, LARGE T&R; Generic Part Number: SN74AUP1G00; Manufacturer: Texas Instruments; PartNumber: SN74AUP1G00DSFR; VCC(Min)(V): 0.8; VCC(Max)(V): 3.6; Output Type: CMOS; ICC @ Nom Voltage(Max)(mA): 0.0009; Bits(#): 1; F @ Nom Voltage(Max)(Mhz): 100; Rating: Catalog; Technology Family: AUP; Voltage(Nom)(V): 0.8,1.2,1.5,1.8,2.5,3.3; Schmitt Trigger: No; Output Drive (IOL/IOH)(Max)(mA): 20/-20; tpd @ Nom Voltage(Max)(ns): 28.4,21.9,14.7,11.5,8.1,6.5; Logic: True; Gate Type: NAND; DatasheetVersion: SCES604I; PackageReference: DSF0006A; Supplier 1: Mouser; Supplier Part Number 1: 595-SN74AUP1G00DSFR; Supplier 2: Digi-Key; Supplier Part Number 2: 296-25724-2-ND; Supplier 3: Digi-Key; Supplier Part Number 3: 296-25724-1-ND; Supplier 4: Digi-Key; Supplier Part Number 4: 296-25724-6-ND; Input Type: CMOS; Operating Temperature Range(C): -40 to 85; Sub-Family: NAND Gate; 3-State Output: No; ComponentLink1Description: Manufacturer URL; ComponentLink1URL: http://www.ti.com/; ComponentLink2Description: Datasheet; ComponentLink2URL: http://www.ti.com/lit/ds/symlink/sn74aup1g00.pdf
footprint DSF0006A_V (SON, 6-Leads, Body 1x1mm, Pitch 0.35mm, TI Recommend)
part A pins: 1 A (in) "Input", 2 B (in) "Input", 4 Y (out) "Output"
part B pins: 3 GND (power) "Ground", 5 NC "No internal connection", 6 VCC (power) "Power Pin"

## SN74AUP1G00YFPR
designator U?
Low-Power Single Two-Input Positive-NAND Gate, YZP0006AAAA, LARGE T&R; Generic Part Number: SN74AUP1G00; Manufacturer: Texas Instruments; PartNumber: SN74AUP1G00YFPR; VCC(Min)(V): 0.8; VCC(Max)(V): 3.6; Output Type: CMOS; ICC @ Nom Voltage(Max)(mA): 0.0009; Bits(#): 1; F @ Nom Voltage(Max)(Mhz): 100; Rating: Catalog; Technology Family: AUP; Voltage(Nom)(V): 0.8,1.2,1.5,1.8,2.5,3.3; Schmitt Trigger: No; Output Drive (IOL/IOH)(Max)(mA): 20/-20; tpd @ Nom Voltage(Max)(ns): 28.4,21.9,14.7,11.5,8.1,6.5; Logic: True; Gate Type: NAND; DatasheetVersion: SCES604I; PackageReference: YZP0006AAAA; Supplier 1: Mouser; Supplier Part Number 1: 595-SN74AUP1G00YFPR; Supplier 2: Digi-Key; Supplier Part Number 2: 296-25391-2-ND; Supplier 3: Digi-Key; Supplier Part Number 3: 296-25391-1-ND; Supplier 4: Digi-Key; Supplier Part Number 4: 296-25391-6-ND; Input Type: CMOS; Operating Temperature Range(C): -40 to 85; Sub-Family: NAND Gate; 3-State Output: No; ComponentLink1Description: Manufacturer URL; ComponentLink1URL: http://www.ti.com/; ComponentLink2Description: Datasheet; ComponentLink2URL: http://www.ti.com/lit/ds/symlink/sn74aup1g00.pdf
footprint YZP0006AAAA (BGA, 6-Balls, Body 1.16x0.76mm, Pitch 0.4mm)
part A pins: A1 A (in) "Input A", B1 B (in) "Input B", C2 Y (out) "Output Y"
part B pins: A2 VCC (power) "Power Pin", B2 DNU "Do not use", C1 GND (power) "Ground"

## SN74AUP1G00YZPR
designator U?
Low-Power Single Two-Input Positive-NAND Gate, YZP0005ADAD, LARGE T&R; Generic Part Number: SN74AUP1G00; Manufacturer: Texas Instruments; PartNumber: SN74AUP1G00YZPR; VCC(Min)(V): 0.8; VCC(Max)(V): 3.6; Output Type: CMOS; ICC @ Nom Voltage(Max)(mA): 0.0009; Bits(#): 1; F @ Nom Voltage(Max)(Mhz): 100; Rating: Catalog; Technology Family: AUP; Voltage(Nom)(V): 0.8,1.2,1.5,1.8,2.5,3.3; Schmitt Trigger: No; Output Drive (IOL/IOH)(Max)(mA): 20/-20; tpd @ Nom Voltage(Max)(ns): 28.4,21.9,14.7,11.5,8.1,6.5; Logic: True; Gate Type: NAND; DatasheetVersion: SCES604I; PackageReference: YZP0005ADAD; Supplier 1: Mouser; Supplier Part Number 1: 595-SN74AUP1G00YZPR; Supplier 2: Digi-Key; Supplier Part Number 2: 296-17898-2-ND; Supplier 3: Digi-Key; Supplier Part Number 3: 296-17898-1-ND; Supplier 4: Digi-Key; Supplier Part Number 4: 296-17898-6-ND; Input Type: CMOS; Operating Temperature Range(C): -40 to 85; Sub-Family: NAND Gate; 3-State Output: No; ComponentLink1Description: Manufacturer URL; ComponentLink1URL: http://www.ti.com/; ComponentLink2Description: Datasheet; ComponentLink2URL: http://www.ti.com/lit/ds/symlink/sn74aup1g00.pdf
footprint YZP0005ADAD (BGA, 5-Balls, Body 1.39x0.89mm, Pitch 0.5mm)
part A pins: A1 A (in) "Input A", B1 B (in) "Input B", C2 Y (out) "Output Y"
part B pins: A2 VCC (power) "Power Pin", C1 GND (power) "Ground"

## SN74AUP1G02DBVR
designator U?
Low-Power Single 2-Input Positive-NOR Gate, DBV0005A, LARGE T&R; Generic Part Number: SN74AUP1G02; Manufacturer: Texas Instruments; PartNumber: SN74AUP1G02DBVR; VCC(Min)(V): 0.8; VCC(Max)(V): 3.6; Output Type: CMOS; ICC @ Nom Voltage(Max)(mA): 0.0009; Bits(#): 1; F @ Nom Voltage(Max)(Mhz): 100; Rating: Catalog; Technology Family: AUP; Voltage(Nom)(V): 0.8,1.2,1.5,1.8,2.5,3.3; Schmitt Trigger: No; Output Drive (IOL/IOH)(Max)(mA): 20/-20; tpd @ Nom Voltage(Max)(ns): 34.6,21.1,14.4,11.2,7.8,6.4; Logic: True; Gate Type: NOR; DatasheetVersion: SCES568H; PackageReference: DBV0005A; Supplier 1: Mouser; Supplier Part Number 1: 595-SN74AUP1G02DBVR; Supplier 2: Digi-Key; Supplier Part Number 2: 296-19070-2-ND; Supplier 3: Digi-Key; Supplier Part Number 3: 296-19070-1-ND; Supplier 4: Digi-Key; Supplier Part Number 4: 296-19070-6-ND; Input Type: CMOS; Operating Temperature Range(C): -40 to 85; Sub-Family: NOR Gate; 3-State Output: No; ComponentLink1Description: Manufacturer URL; ComponentLink1URL: http://www.ti.com/; ComponentLink2Description: Datasheet; ComponentLink2URL: http://www.ti.com/lit/ds/symlink/sn74aup1g02.pdf
footprint DBV0005A_N (SOT23, 5-Leads, Body 3.05x1.75mm, Pitch 0.95mm, IPC Medium Density)
footprint DBV0005A_M (SOT23, 5-Leads, Body 3.05x1.75mm, Pitch 0.95mm, IPC Low Density)
footprint DBV0005A_L (SOT23, 5-Leads, Body 3.05x1.75mm, Pitch 0.95mm, IPC High Density)
part A pins: 1 A (in) "Input A", 2 B (in) "Input B", 4 Y (out) "Output Y"
part B pins: 3 GND (power) "Ground Pin", 5 VCC (power) "Power Pin"

## SN74AUP1G02DBVT
designator U?
Low-Power Single 2-Input Positive-NOR Gate, DBV0005A, SMALL T&R; Generic Part Number: SN74AUP1G02; Manufacturer: Texas Instruments; PartNumber: SN74AUP1G02DBVT; VCC(Min)(V): 0.8; VCC(Max)(V): 3.6; Output Type: CMOS; ICC @ Nom Voltage(Max)(mA): 0.0009; Bits(#): 1; F @ Nom Voltage(Max)(Mhz): 100; Rating: Catalog; Technology Family: AUP; Voltage(Nom)(V): 0.8,1.2,1.5,1.8,2.5,3.3; Schmitt Trigger: No; Output Drive (IOL/IOH)(Max)(mA): 20/-20; tpd @ Nom Voltage(Max)(ns): 34.6,21.1,14.4,11.2,7.8,6.4; Logic: True; Gate Type: NOR; DatasheetVersion: SCES568H; PackageReference: DBV0005A; Supplier 1: Mouser; Supplier Part Number 1: 595-SN74AUP1G02DBVT; Supplier 2: Digi-Key; Supplier Part Number 2: SN74AUP1G02DBVT-ND; Input Type: CMOS; Operating Temperature Range(C): -40 to 85; Sub-Family: NOR Gate; 3-State Output: No; ComponentLink1Description: Manufacturer URL; ComponentLink1URL: http://www.ti.com/; ComponentLink2Description: Datasheet; ComponentLink2URL: http://www.ti.com/lit/ds/symlink/sn74aup1g02.pdf
footprint DBV0005A_N (SOT23, 5-Leads, Body 3.05x1.75mm, Pitch 0.95mm, IPC Medium Density)
footprint DBV0005A_M (SOT23, 5-Leads, Body 3.05x1.75mm, Pitch 0.95mm, IPC Low Density)
footprint DBV0005A_L (SOT23, 5-Leads, Body 3.05x1.75mm, Pitch 0.95mm, IPC High Density)
part A pins: 1 A (in) "Input A", 2 B (in) "Input B", 4 Y (out) "Output Y"
part B pins: 3 GND (power) "Ground Pin", 5 VCC (power) "Power Pin"

## SN74AUP1G02DCKR
designator U?
Low-Power Single 2-Input Positive-NOR Gate, DCK0005A, LARGE T&R; Generic Part Number: SN74AUP1G02; Manufacturer: Texas Instruments; PartNumber: SN74AUP1G02DCKR; VCC(Min)(V): 0.8; VCC(Max)(V): 3.6; Output Type: CMOS; ICC @ Nom Voltage(Max)(mA): 0.0009; Bits(#): 1; F @ Nom Voltage(Max)(Mhz): 100; Rating: Catalog; Technology Family: AUP; Voltage(Nom)(V): 0.8,1.2,1.5,1.8,2.5,3.3; Schmitt Trigger: No; Output Drive (IOL/IOH)(Max)(mA): 20/-20; tpd @ Nom Voltage(Max)(ns): 34.6,21.1,14.4,11.2,7.8,6.4; Logic: True; Gate Type: NOR; DatasheetVersion: SCES568H; PackageReference: DCK0005A; Supplier 1: Mouser; Supplier Part Number 1: 595-SN74AUP1G02DCKR; Supplier 2: Digi-Key; Supplier Part Number 2: 296-22014-2-ND; Supplier 3: Digi-Key; Supplier Part Number 3: 296-22014-1-ND; Supplier 4: Digi-Key; Supplier Part Number 4: 296-22014-6-ND; Input Type: CMOS; Operating Temperature Range(C): -40 to 85; Sub-Family: NOR Gate; 3-State Output: No; ComponentLink1Description: Manufacturer URL; ComponentLink1URL: http://www.ti.com/; ComponentLink2Description: Datasheet; ComponentLink2URL: http://www.ti.com/lit/ds/symlink/sn74aup1g02.pdf
footprint DCK0005A_N (SOT23, 5-Leads, Body 2.15x1.4mm, Pitch 0.65mm, IPC Medium Density)
footprint DCK0005A_M (SOT23, 5-Leads, Body 2.15x1.4mm, Pitch 0.65mm, IPC Low Density)
footprint DCK0005A_L (SOT23, 5-Leads, Body 2.15x1.4mm, Pitch 0.65mm, IPC High Density)
part A pins: 1 A (in) "Input A", 2 B (in) "Input B", 4 Y (out) "Output Y"
part B pins: 3 GND (power) "Ground Pin", 5 VCC (power) "Power Pin"

## SN74AUP1G02DCKT
designator U?
Low-Power Single 2-Input Positive-NOR Gate, DCK0005A, SMALL T&R; Generic Part Number: SN74AUP1G02; Manufacturer: Texas Instruments; PartNumber: SN74AUP1G02DCKT; VCC(Min)(V): 0.8; VCC(Max)(V): 3.6; Output Type: CMOS; ICC @ Nom Voltage(Max)(mA): 0.0009; Bits(#): 1; F @ Nom Voltage(Max)(Mhz): 100; Rating: Catalog; Technology Family: AUP; Voltage(Nom)(V): 0.8,1.2,1.5,1.8,2.5,3.3; Schmitt Trigger: No; Output Drive (IOL/IOH)(Max)(mA): 20/-20; tpd @ Nom Voltage(Max)(ns): 34.6,21.1,14.4,11.2,7.8,6.4; Logic: True; Gate Type: NOR; DatasheetVersion: SCES568H; PackageReference: DCK0005A; Supplier 1: Mouser; Supplier Part Number 1: 595-SN74AUP1G02DCKT; Supplier 2: Digi-Key; Supplier Part Number 2: 296-41490-2-ND; Supplier 3: Digi-Key; Supplier Part Number 3: 296-41490-1-ND; Supplier 4: Digi-Key; Supplier Part Number 4: 296-41490-6-ND; Input Type: CMOS; Operating Temperature Range(C): -40 to 85; Sub-Family: NOR Gate; 3-State Output: No; ComponentLink1Description: Manufacturer URL; ComponentLink1URL: http://www.ti.com/; ComponentLink2Description: Datasheet; ComponentLink2URL: http://www.ti.com/lit/ds/symlink/sn74aup1g02.pdf
footprint DCK0005A_N (SOT23, 5-Leads, Body 2.15x1.4mm, Pitch 0.65mm, IPC Medium Density)
footprint DCK0005A_M (SOT23, 5-Leads, Body 2.15x1.4mm, Pitch 0.65mm, IPC Low Density)
footprint DCK0005A_L (SOT23, 5-Leads, Body 2.15x1.4mm, Pitch 0.65mm, IPC High Density)
part A pins: 1 A (in) "Input A", 2 B (in) "Input B", 4 Y (out) "Output Y"
part B pins: 3 GND (power) "Ground Pin", 5 VCC (power) "Power Pin"

## SN74AUP1G02DPWR
designator U?
Low-Power Single 2-Input Positive-NOR Gate, DPW0004A, LARGE T&R; Generic Part Number: SN74AUP1G02; Manufacturer: Texas Instruments; PartNumber: SN74AUP1G02DPWR; VCC(Min)(V): 0.8; VCC(Max)(V): 3.6; Output Type: CMOS; ICC @ Nom Voltage(Max)(mA): 0.0009; Bits(#): 1; F @ Nom Voltage(Max)(Mhz): 100; Rating: Catalog; Technology Family: AUP; Voltage(Nom)(V): 0.8,1.2,1.5,1.8,2.5,3.3; Schmitt Trigger: No; Output Drive (IOL/IOH)(Max)(mA): 20/-20; tpd @ Nom Voltage(Max)(ns): 34.6,21.1,14.4,11.2,7.8,6.4; Logic: True; Gate Type: NOR; DatasheetVersion: SCES568H; PackageReference: DPW0004A; Supplier 1: Mouser; Supplier Part Number 1: 595-SN74AUP1G02DPWR; Supplier 2: Digi-Key; Supplier Part Number 2: 296-38018-2-ND; Supplier 3: Digi-Key; Supplier Part Number 3: 296-38018-1-ND; Supplier 4: Digi-Key; Supplier Part Number 4: 296-38018-6-ND; Input Type: CMOS; Operating Temperature Range(C): -40 to 85; Sub-Family: NOR Gate; 3-State Output: No; ComponentLink1Description: Manufacturer URL; ComponentLink1URL: http://www.ti.com/; ComponentLink2Description: Datasheet; ComponentLink2URL: http://www.ti.com/lit/ds/symlink/sn74aup1g02.pdf
footprint DPW0004A_V (SON, 5-Leads, Body 0.8x0.8mm, TI Recommend)
part A pins: 1 B (in) "Input B", 2 A (in) "Input A", 4 Y (out) "Output Y"
part B pins: 3 GND (power) "Ground", 5 VCC (power) "Power Pin"

## SN74AUP1G02DRLR
designator U?
Low-Power Single 2-Input Positive-NOR Gate, DRL0005A, LARGE T&R; Generic Part Number: SN74AUP1G02; Manufacturer: Texas Instruments; PartNumber: SN74AUP1G02DRLR; VCC(Min)(V): 0.8; VCC(Max)(V): 3.6; Output Type: CMOS; ICC @ Nom Voltage(Max)(mA): 0.0009; Bits(#): 1; F @ Nom Voltage(Max)(Mhz): 100; Rating: Catalog; Technology Family: AUP; Voltage(Nom)(V): 0.8,1.2,1.5,1.8,2.5,3.3; Schmitt Trigger: No; Output Drive (IOL/IOH)(Max)(mA): 20/-20; tpd @ Nom Voltage(Max)(ns): 34.6,21.1,14.4,11.2,7.8,6.4; Logic: True; Gate Type: NOR; DatasheetVersion: SCES568H; PackageReference: DRL0005A; Supplier 1: Mouser; Supplier Part Number 1: 595-SN74AUP1G02DRLR; Supplier 2: Digi-Key; Supplier Part Number 2: 296-18649-2-ND; Supplier 3: Digi-Key; Supplier Part Number 3: 296-18649-1-ND; Supplier 4: Digi-Key; Supplier Part Number 4: 296-18649-6-ND; Input Type: CMOS; Operating Temperature Range(C): -40 to 85; Sub-Family: NOR Gate; 3-State Output: No; ComponentLink1Description: Manufacturer URL; ComponentLink1URL: http://www.ti.com/; ComponentLink2Description: Datasheet; ComponentLink2URL: http://www.ti.com/lit/ds/symlink/sn74aup1g02.pdf
footprint DRL0005A_N (SOT23, 5-Leads, Body 1.7x1.3mm, Pitch 0.5mm, IPC Medium Density)
footprint DRL0005A_M (SOT23, 5-Leads, Body 1.7x1.3mm, Pitch 0.5mm, IPC Low Density)
footprint DRL0005A_L (SOT23, 5-Leads, Body 1.7x1.3mm, Pitch 0.5mm, IPC High Density)
part A pins: 1 A (in) "Input A", 2 B (in) "Input B", 4 Y (out) "Output Y"
part B pins: 3 GND (power) "Ground Pin", 5 VCC (power) "Power Pin"

## SN74AUP1G02DRYR
designator U?
Low-Power Single 2-Input Positive-NOR Gate, DRY0006A, LARGE T&R; Generic Part Number: SN74AUP1G02; Manufacturer: Texas Instruments; PartNumber: SN74AUP1G02DRYR; VCC(Min)(V): 0.8; VCC(Max)(V): 3.6; Output Type: CMOS; ICC @ Nom Voltage(Max)(mA): 0.0009; Bits(#): 1; F @ Nom Voltage(Max)(Mhz): 100; Rating: Catalog; Technology Family: AUP; Voltage(Nom)(V): 0.8,1.2,1.5,1.8,2.5,3.3; Schmitt Trigger: No; Output Drive (IOL/IOH)(Max)(mA): 20/-20; tpd @ Nom Voltage(Max)(ns): 34.6,21.1,14.4,11.2,7.8,6.4; Logic: True; Gate Type: NOR; DatasheetVersion: SCES568H; PackageReference: DRY0006A; Supplier 1: Mouser; Supplier Part Number 1: 595-SN74AUP1G02DRYR; Supplier 2: Digi-Key; Supplier Part Number 2: 296-27338-2-ND; Supplier 3: Digi-Key; Supplier Part Number 3: 296-27338-1-ND; Supplier 4: Digi-Key; Supplier Part Number 4: 296-27338-6-ND; Input Type: CMOS; Operating Temperature Range(C): -40 to 85; Sub-Family: NOR Gate; 3-State Output: No; ComponentLink1Description: Manufacturer URL; ComponentLink1URL: http://www.ti.com/; ComponentLink2Description: Datasheet; ComponentLink2URL: http://www.ti.com/lit/ds/symlink/sn74aup1g02.pdf
footprint DRY0006A_V (SON, 6-Leads, Body 1.45x1mm, Pitch 0.5mm)
part A pins: 1 A (in) "Input A", 2 B (in) "Input B", 4 Y (out) "Output Y"
part B pins: 3 GND (power) "Ground", 5 NC "No internal connection", 6 VCC (power) "Power Pin"

## SN74AUP1G02DSFR
designator U?
Low-Power Single 2-Input Positive-NOR Gate, DSF0006A, LARGE T&R; Generic Part Number: SN74AUP1G02; Manufacturer: Texas Instruments; PartNumber: SN74AUP1G02DSFR; VCC(Min)(V): 0.8; VCC(Max)(V): 3.6; Output Type: CMOS; ICC @ Nom Voltage(Max)(mA): 0.0009; Bits(#): 1; F @ Nom Voltage(Max)(Mhz): 100; Rating: Catalog; Technology Family: AUP; Voltage(Nom)(V): 0.8,1.2,1.5,1.8,2.5,3.3; Schmitt Trigger: No; Output Drive (IOL/IOH)(Max)(mA): 20/-20; tpd @ Nom Voltage(Max)(ns): 34.6,21.1,14.4,11.2,7.8,6.4; Logic: True; Gate Type: NOR; DatasheetVersion: SCES568H; PackageReference: DSF0006A; Supplier 1: Mouser; Supplier Part Number 1: 595-SN74AUP1G02DSFR; Supplier 2: Digi-Key; Supplier Part Number 2: 296-25725-2-ND; Supplier 3: Digi-Key; Supplier Part Number 3: 296-25725-1-ND; Supplier 4: Digi-Key; Supplier Part Number 4: 296-25725-6-ND; Input Type: CMOS; Operating Temperature Range(C): -40 to 85; Sub-Family: NOR Gate; 3-State Output: No; ComponentLink1Description: Manufacturer URL; ComponentLink1URL: http://www.ti.com/; ComponentLink2Description: Datasheet; ComponentLink2URL: http://www.ti.com/lit/ds/symlink/sn74aup1g02.pdf
footprint DSF0006A_V (SON, 6-Leads, Body 1x1mm, Pitch 0.35mm, TI Recommend)
part A pins: 1 A (in) "Input A", 2 B (in) "Input B", 4 Y (out) "Output Y"
part B pins: 3 GND (power) "Ground", 5 NC "No internal connection", 6 VCC (power) "Power Pin"

## SN74AUP1G02YFPR
designator U?
Low-Power Single 2-Input Positive-NOR Gate, YZP0006AAAA, LARGE T&R; Generic Part Number: SN74AUP1G02; Manufacturer: Texas Instruments; PartNumber: SN74AUP1G02YFPR; VCC(Min)(V): 0.8; VCC(Max)(V): 3.6; Output Type: CMOS; ICC @ Nom Voltage(Max)(mA): 0.0009; Bits(#): 1; F @ Nom Voltage(Max)(Mhz): 100; Rating: Catalog; Technology Family: AUP; Voltage(Nom)(V): 0.8,1.2,1.5,1.8,2.5,3.3; Schmitt Trigger: No; Output Drive (IOL/IOH)(Max)(mA): 20/-20; tpd @ Nom Voltage(Max)(ns): 34.6,21.1,14.4,11.2,7.8,6.4; Logic: True; Gate Type: NOR; DatasheetVersion: SCES568H; PackageReference: YZP0006AAAA; Supplier 1: Mouser; Supplier Part Number 1: 595-SN74AUP1G02YFPR; Supplier 2: Digi-Key; Supplier Part Number 2: 296-25392-2-ND; Supplier 3: Digi-Key; Supplier Part Number 3: 296-25392-1-ND; Supplier 4: Digi-Key; Supplier Part Number 4: 296-25392-6-ND; Input Type: CMOS; Operating Temperature Range(C): -40 to 85; Sub-Family: NOR Gate; 3-State Output: No; ComponentLink1Description: Manufacturer URL; ComponentLink1URL: http://www.ti.com/; ComponentLink2Description: Datasheet; ComponentLink2URL: http://www.ti.com/lit/ds/symlink/sn74aup1g02.pdf
footprint YZP0006AAAA (BGA, 6-Balls, Body 1.16x0.76mm, Pitch 0.4mm)
part A pins: A1 A (in) "Input A", B1 B (in) "Input B", C2 Y (out) "Output Y"
part B pins: A2 VCC (power) "Power Pin", B2 DNU, C1 GND (power) "Ground"

## SN74AUP1G04DBVR
designator U?
Low-Power Single Inverter Gate, DBV0005A, LARGE T&R; Generic Part Number: SN74AUP1G04; Manufacturer: Texas Instruments; PartNumber: SN74AUP1G04DBVR; VCC(Min)(V): 0.8; VCC(Max)(V): 3.6; Output Type: CMOS; ICC @ Nom Voltage(Max)(mA): 0.0009; Bits(#): 1; F @ Nom Voltage(Max)(Mhz): 100; Rating: Catalog; Technology Family: AUP; Voltage(Nom)(V): 0.8,1.2,1.5,1.8,2.5,3.3; Schmitt Trigger: No; Output Drive (IOL/IOH)(Max)(mA): 20/-20; tpd @ Nom Voltage(Max)(ns): 25.4,16,10.8,9.2,6.5,5.4; Logic: Inverting; Sub-Family: Inverting Buffer/Driver; DatasheetVersion: SCES571K; PackageReference: DBV0005A; Supplier 1: Mouser; Supplier Part Number 1: 595-SN74AUP1G04DBVR; Supplier 2: Digi-Key; Supplier Part Number 2: 296-19071-2-ND; Supplier 3: Digi-Key; Supplier Part Number 3: 296-19071-1-ND; Supplier 4: Digi-Key; Supplier Part Number 4: 296-19071-6-ND; Input Type: CMOS; Operating Temperature Range(C): -40 to 85; 3-State Output: No; ComponentLink1Description: Manufacturer URL; ComponentLink1URL: http://www.ti.com/; ComponentLink2Description: Datasheet; ComponentLink2URL: http://www.ti.com/lit/ds/symlink/sn74aup1g04.pdf
footprint DBV0005A_N (SOT23, 5-Leads, Body 3.05x1.75mm, Pitch 0.95mm, IPC Medium Density)
footprint DBV0005A_M (SOT23, 5-Leads, Body 3.05x1.75mm, Pitch 0.95mm, IPC Low Density)
footprint DBV0005A_L (SOT23, 5-Leads, Body 3.05x1.75mm, Pitch 0.95mm, IPC High Density)
part A pins: 2 A (in) "Input A", 4 Y (out) "Output Y"
part B pins: 1 NC "Ground", 3 GND (power) "Ground Pin", 5 VCC (power) "Power Pin"

## SN74AUP1G04DBVT
designator U?
Low-Power Single Inverter Gate, DBV0005A, SMALL T&R; Generic Part Number: SN74AUP1G04; Manufacturer: Texas Instruments; PartNumber: SN74AUP1G04DBVT; VCC(Min)(V): 0.8; VCC(Max)(V): 3.6; Output Type: CMOS; ICC @ Nom Voltage(Max)(mA): 0.0009; Bits(#): 1; F @ Nom Voltage(Max)(Mhz): 100; Rating: Catalog; Technology Family: AUP; Voltage(Nom)(V): 0.8,1.2,1.5,1.8,2.5,3.3; Schmitt Trigger: No; Output Drive (IOL/IOH)(Max)(mA): 20/-20; tpd @ Nom Voltage(Max)(ns): 25.4,16,10.8,9.2,6.5,5.4; Logic: Inverting; Sub-Family: Inverting Buffer/Driver; DatasheetVersion: SCES571K; PackageReference: DBV0005A; Supplier 1: Mouser; Supplier Part Number 1: 595-SN74AUP1G04DBVT; Supplier 2: Digi-Key; Supplier Part Number 2: 296-39197-2-ND; Supplier 3: Digi-Key; Supplier Part Number 3: 296-39197-1-ND; Supplier 4: Digi-Key; Supplier Part Number 4: 296-39197-6-ND; Input Type: CMOS; Operating Temperature Range(C): -40 to 85; 3-State Output: No; ComponentLink1Description: Manufacturer URL; ComponentLink1URL: http://www.ti.com/; ComponentLink2Description: Datasheet; ComponentLink2URL: http://www.ti.com/lit/ds/symlink/sn74aup1g04.pdf
footprint DBV0005A_N (SOT23, 5-Leads, Body 3.05x1.75mm, Pitch 0.95mm, IPC Medium Density)
footprint DBV0005A_M (SOT23, 5-Leads, Body 3.05x1.75mm, Pitch 0.95mm, IPC Low Density)
footprint DBV0005A_L (SOT23, 5-Leads, Body 3.05x1.75mm, Pitch 0.95mm, IPC High Density)
part A pins: 2 A (in) "Input A", 4 Y (out) "Output Y"
part B pins: 1 NC "Ground", 3 GND (power) "Ground Pin", 5 VCC (power) "Power Pin"